# Altium footprint library GMSK Prototyping Board.PcbLib: 13 footprints
Each footprint in its own frame and in the unit in brackets; x right, y up, seen from the top. Pads: shape width x height; smd on the part's side, far side on the other; paste and mask are expansions set on the pad; w line width, h text height; cw(c..) or ccw(c..) is an arc to the next point about the centre after c.
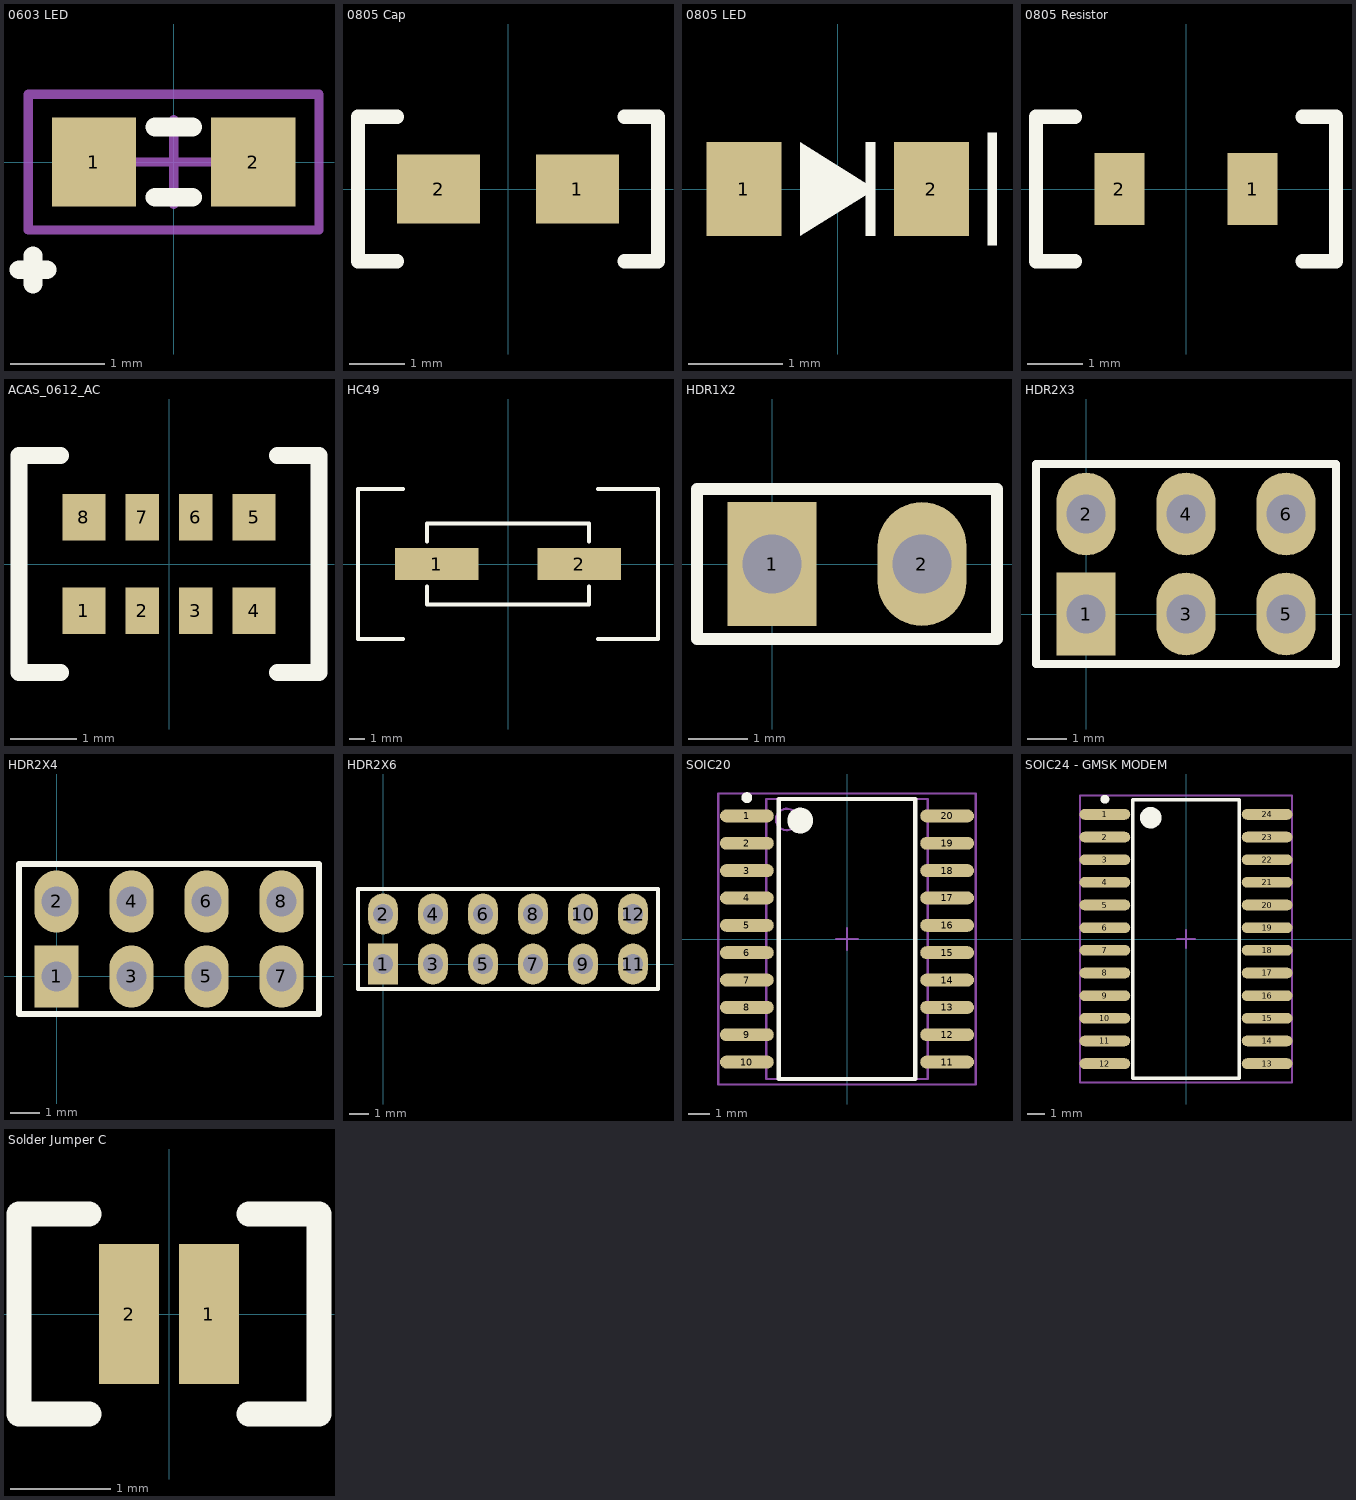
[diagram p0: the footprints below, top view; thin cyan lines are the x and y axes]

## 0603 LED [mm]
pads (2):
  rect 0.9x0.95 smd: 1(-0.85,0) 2(0.85,0)
Top Overlay:
  lines w0.2: -1.65,-1.15 -1.35,-1.15 ; -1.5,-1.3 -1.5,-1 ; -0.2,-0.375 0.2,-0.375 ; -0.2,0.375 0.2,0.375
Mechanical 15:
  lines w0.1: -0.45,0 0.45,0 ; 0,-0.45 0,0.45 ; -1.55,-0.725 -1.55,0.725 1.55,0.725 1.55,-0.725 -1.55,-0.725
3D body: height 0.6, standoff 0.2, extent -0.8,-0.4 0.8,0.4
3D body: height 0.2, standoff 0, extent -0.8,-0.4 0.8,0.4

## 0805 Cap [mm]
pads (2):
  rect 1.5x1.25 smd: 1(1.25,0) 2(-1.25,0)
Top Overlay:
  lines w0.254: -2,-1.3 -2.7,-1.3 -2.7,1.3 -2,1.3 ; 2.1,-1.3 2.7,-1.3 2.7,1.3 2.1,1.3
3D body: height 1, standoff 0, extent -1.05,-0.625 1.05,0.625
3D body: height 1, standoff 0, extent 1.05,-0.625 1.55,0.625
3D body: height 1, standoff 0, extent -1.55,-0.625 -1.05,0.625

## 0805 LED [mm] "0805 Light Emitting Diode"
pads (2):
  rect 0.8x1 smd: 1(-1,0) 2(1,0)
Top Overlay:
  region: 1.6,0.6 1.6,-0.6 1.7,-0.6 1.7,0.6
  region: -0.4,-0.5 0.4,0 -0.4,0.5
  region: 0.3,-0.5 0.4,-0.5 0.4,0.5 0.3,0.5

## 0805 Resistor [mm]
pads (2):
  rect 0.9x1.3 smd: 1(1.2,0) 2(-1.2,0)
Top Overlay:
  lines w0.254: -2,-1.3 -2.7,-1.3 -2.7,1.3 -2,1.3 ; 2.1,-1.3 2.7,-1.3 2.7,1.3 2.1,1.3
3D body: height 0.5, standoff 0, extent -1.05,-0.625 1.05,0.625
3D body: height 0.5, standoff 0, extent 1.05,-0.625 1.4,0.625
3D body: height 0.5, standoff 0, extent -1.4,-0.625 -1.05,0.625

## ACAS_0612_AC [mm]
pads (8):
  rect 0.65x0.7 smd: 1(-1.275,-0.7) 4(1.275,-0.7) 5(1.275,0.7) 8(-1.275,0.7)
  rect 0.5x0.7 smd: 2(-0.4,-0.7) 3(0.4,-0.7) 6(0.4,0.7) 7(-0.4,0.7)
Top Overlay:
  lines w0.254: -1.625,-1.625 -2.25,-1.625 -2.25,1.625 -1.625,1.625 ; 1.625,-1.625 2.25,-1.625 2.25,1.625 1.625,1.625
3D body: height 0.45, standoff 0, extent -1.6,-0.35 1.6,0.35
3D body: height 0.45, standoff 0, extent -1.6,0.35 -1,0.75
3D body: height 0.45, standoff 0, extent -1.6,-0.75 -1,-0.35
3D body: height 0.45, standoff 0, extent 1,-0.75 1.6,-0.35
3D body: height 0.45, standoff 0, extent 1,0.35 1.6,0.75
3D body: height 0.45, standoff 0, extent -0.6,0.35 -0.2,0.75
3D body: height 0.45, standoff 0, extent 0.2,0.35 0.6,0.75
3D body: height 0.45, standoff 0, extent 0.2,-0.75 0.6,-0.35
3D body: height 0.45, standoff 0, extent -0.6,-0.75 -0.2,-0.35

## HC49 [mm]
pads (2):
  rect 5.6x2.1 smd: 1(-4.75,0) 2(4.75,0)
Top Overlay:
  lines w0.254: -7,-5 -10,-5 -10,5 -7,5 ; -5.4,-1.5 -5.4,-2.7 5.4,-2.7 5.4,-1.5 ; -5.4,1.5 -5.4,2.7 5.4,2.7 5.4,1.5 ; 6,-5 10,-5 10,5 6,5
3D body: height 1, standoff 0.1, extent -5.4,-2.7 5.4,2.7
3D body: height 4.2, standoff 0, extent 1.016,-1.996 5,1.996
3D body: height 4.2, standoff 0, extent -4.984,-1.996 -1,1.996
3D body: height 4.2, standoff 0, extent -2.992,-1.996 3.008,1.996

## HDR1X2 [mm]
pads (2):
  rect 1.5x2.1 hole 1: 1(0,0)
  oval 1.5x2.1 hole 1: 2(2.54,0)
Top Overlay:
  lines w0.2: -1.27,-1.27 3.81,-1.27 3.81,1.27 -1.27,1.27 -1.27,-1.27
3D body: height 2.54, standoff 0, extent -1.17,-1.17 3.71,1.17
3D body: height 7.01, standoff 1.01, extent 2.044,-0.499 3.04,0.499
3D body: height 7.01, standoff 1.01, extent -0.496,-0.499 0.5,0.499

## HDR2X3 [mm]
pads (6):
  rect 1.5x2.1 hole 1: 1(0,0)
  oval 1.5x2.1 hole 1: 2(0,2.54) 3(2.54,0) 4(2.54,2.54) 5(5.08,0) 6(5.08,2.54)
Top Overlay:
  lines w0.2: 1.482,-1.27 6.35,-1.27 ; 6.35,-1.27 6.35,3.81 -1.27,3.81 -1.27,-1.27 6.35,-1.27
3D body: height 7.01, standoff 1.01, extent -0.499,-0.5 0.499,0.496
3D body: height 7.01, standoff 1.01, extent -0.499,2.04 0.499,3.036
3D body: height 7.01, standoff 1.01, extent 2.041,2.04 3.039,3.036
3D body: height 7.01, standoff 1.01, extent 2.041,-0.5 3.039,0.496
3D body: height 7.01, standoff 1.01, extent 4.581,-0.5 5.579,0.496
3D body: height 7.01, standoff 1.01, extent 4.581,2.04 5.579,3.036
3D body: height 2.54, standoff 0, extent -1.17,-1.17 6.25,3.71

## HDR2X4 [mm]
pads (8):
  rect 1.5x2.1 hole 1: 1(0,0)
  oval 1.5x2.1 hole 1: 2(0,2.54) 3(2.54,0) 4(2.54,2.54) 5(5.08,0) 6(5.08,2.54) 7(7.62,0) 8(7.62,2.54)
Top Overlay:
  lines w0.2: -1.27,-1.27 -1.27,3.81 8.89,3.81 8.89,-1.27 -1.27,-1.27
3D body: height 2.54, standoff 0, extent -1.17,-1.17 8.79,3.71
3D body: height 7.01, standoff 1.01, extent -0.496,2.041 0.5,3.039
3D body: height 7.01, standoff 1.01, extent 2.044,2.041 3.04,3.039
3D body: height 7.01, standoff 1.01, extent 4.584,2.041 5.58,3.039
3D body: height 7.01, standoff 1.01, extent 7.124,2.041 8.12,3.039
3D body: height 7.01, standoff 1.01, extent 7.124,-0.499 8.12,0.499
3D body: height 7.01, standoff 1.01, extent 4.584,-0.499 5.58,0.499
3D body: height 7.01, standoff 1.01, extent 2.044,-0.499 3.04,0.499
3D body: height 7.01, standoff 1.01, extent -0.496,-0.499 0.5,0.499

## HDR2X6 [mm]
pads (12):
  rect 1.5x2.1 hole 1: 1(0,0)
  oval 1.5x2.1 hole 1: 2(0,2.54) 3(2.54,0) 4(2.54,2.54) 5(5.08,0) 6(5.08,2.54) 7(7.62,0) 8(7.62,2.54) 9(10.16,0) 10(10.16,2.54) 11(12.7,0) 12(12.7,2.54)
Top Overlay:
  lines w0.2: -1.27,-1.27 13.97,-1.27 13.97,3.81 -1.27,3.81 -1.27,-1.27
3D body: height 7.01, standoff 1.01, extent -0.496,-0.499 0.5,0.499
3D body: height 7.01, standoff 1.01, extent 2.044,-0.499 3.04,0.499
3D body: height 7.01, standoff 1.01, extent 4.584,-0.499 5.58,0.499
3D body: height 7.01, standoff 1.01, extent 7.124,-0.499 8.12,0.499
3D body: height 7.01, standoff 1.01, extent 9.664,-0.499 10.66,0.499
3D body: height 7.01, standoff 1.01, extent 12.204,-0.499 13.2,0.499
3D body: height 7.01, standoff 1.01, extent 12.204,2.041 13.2,3.039
3D body: height 7.01, standoff 1.01, extent 9.664,2.041 10.66,3.039
3D body: height 7.01, standoff 1.01, extent 7.124,2.041 8.12,3.039
3D body: height 7.01, standoff 1.01, extent 4.584,2.041 5.58,3.039
3D body: height 7.01, standoff 1.01, extent 2.044,2.041 3.04,3.039
3D body: height 7.01, standoff 1.01, extent -0.496,2.041 0.5,3.039
3D body: height 2.54, standoff 0, extent -1.18,-1.175 13.87,3.725

## SOIC20 [mm]
pads (20):
  oval 2.5x0.6 smd: 1(-4.65,5.715) 2(-4.65,4.445) 3(-4.65,3.175) 4(-4.65,1.905) 5(-4.65,0.635) 6(-4.65,-0.635) 7(-4.65,-1.905) 8(-4.65,-3.175) 9(-4.65,-4.445) 10(-4.65,-5.715) 11(4.65,-5.715) 12(4.65,-4.445) 13(4.65,-3.175) 14(4.65,-1.905) 15(4.65,-0.635) 16(4.65,0.635) 17(4.65,1.905) 18(4.65,3.175) 19(4.65,4.445) 20(4.65,5.715)
Top Overlay:
  circle w0.6: c-2.175,5.5 r0.3
  circle w0.25: c-4.65,6.565 r0.125
  lines w0.2: -3.175,-6.5 3.175,-6.5 3.175,6.5 -3.175,6.5 -3.175,-6.5
Mechanical 13:
  circle w0.1: c-2.8,5.55 r0.5
  lines w0.1: -3.75,-6.5 3.75,-6.5 3.75,6.5 -3.75,6.5 -3.75,-6.5
Mechanical 15:
  lines w0.1: -0.5,0 0.5,0 ; 0,-0.5 0,0.5 ; -5.975,-6.75 5.975,-6.75 5.975,6.75 -5.975,6.75 -5.975,-6.75
3D body: height 0.33, standoff 0, extent 4.064,5.359 5.334,6.071
3D body: height 0.33, standoff 0, extent -5.334,5.359 -4.064,6.071
3D body: height 1.27, standoff 0, extent -4.064,5.359 -3.75,6.071
3D body: height 1.27, standoff 0, extent 3.75,5.359 4.064,6.071
3D body: height 0.33, standoff 0, extent 4.039,-4.801 5.309,-4.089
3D body: height 0.33, standoff 0, extent -5.359,-4.801 -4.089,-4.089
3D body: height 1.27, standoff 0, extent -4.089,-4.801 -3.775,-4.089
3D body: height 1.27, standoff 0, extent 3.725,-4.801 4.039,-4.089
3D body: height 0.33, standoff 0, extent 4.039,-6.071 5.309,-5.359
3D body: height 0.33, standoff 0, extent -5.359,-6.071 -4.089,-5.359
3D body: height 1.27, standoff 0, extent -4.089,-6.071 -3.775,-5.359
3D body: height 1.27, standoff 0, extent 3.725,-6.071 4.039,-5.359
3D body: height 1.27, standoff 0, extent 3.75,-3.531 4.064,-2.819
3D body: height 1.27, standoff 0, extent -4.064,-3.531 -3.75,-2.819
3D body: height 0.33, standoff 0, extent -5.334,-3.531 -4.064,-2.819
3D body: height 0.33, standoff 0, extent 4.064,-3.531 5.334,-2.819
3D body: height 1.27, standoff 0, extent 3.75,-2.261 4.064,-1.549
3D body: height 1.27, standoff 0, extent -4.064,-2.261 -3.75,-1.549
3D body: height 0.33, standoff 0, extent -5.334,-2.261 -4.064,-1.549
3D body: height 0.33, standoff 0, extent 4.064,-2.261 5.334,-1.549
3D body: height 1.27, standoff 0, extent 3.75,-0.991 4.064,-0.279
3D body: height 1.27, standoff 0, extent -4.064,-0.991 -3.75,-0.279
3D body: height 0.33, standoff 0, extent -5.334,-0.991 -4.064,-0.279
3D body: height 0.33, standoff 0, extent 4.064,-0.991 5.334,-0.279
3D body: height 1.27, standoff 0, extent 3.75,0.279 4.064,0.991
3D body: height 1.27, standoff 0, extent -4.064,0.279 -3.75,0.991
3D body: height 0.33, standoff 0, extent -5.334,0.279 -4.064,0.991
3D body: height 0.33, standoff 0, extent 4.064,0.279 5.334,0.991
3D body: height 1.27, standoff 0, extent 3.75,1.549 4.064,2.261
3D body: height 1.27, standoff 0, extent -4.064,1.549 -3.75,2.261
3D body: height 0.33, standoff 0, extent -5.334,1.549 -4.064,2.261
3D body: height 0.33, standoff 0, extent 4.064,1.549 5.334,2.261
3D body: height 1.27, standoff 0, extent 3.725,2.819 4.039,3.531
3D body: height 1.27, standoff 0, extent -4.089,2.819 -3.775,3.531
3D body: height 0.33, standoff 0, extent -5.359,2.819 -4.089,3.531
3D body: height 0.33, standoff 0, extent 4.039,2.819 5.309,3.531
3D body: height 1.27, standoff 0, extent 3.75,4.089 4.064,4.801
3D body: height 1.27, standoff 0, extent -4.064,4.089 -3.75,4.801
3D body: height 0.33, standoff 0, extent -5.334,4.089 -4.064,4.801
3D body: height 0.33, standoff 0, extent 4.064,4.089 5.334,4.801
3D body: height 2.65, standoff 0.1, extent -3.75,-6.5 3.75,6.5

## SOIC24 - GMSK MODEM [mm]
pads (24):
  oval 2.85x0.6 smd: 1(-4.55,6.985) 2(-4.55,5.715) 3(-4.55,4.445) 4(-4.55,3.175) 5(-4.55,1.905) 6(-4.55,0.635) 7(-4.55,-0.635) 8(-4.55,-1.905) 9(-4.55,-3.175) 10(-4.55,-4.445) 11(-4.55,-5.715) 12(-4.55,-6.985) 13(4.55,-6.985) 14(4.55,-5.715) 15(4.55,-4.445) 16(4.55,-3.175) 17(4.55,-1.905) 18(4.55,-0.635) 19(4.55,0.635) 20(4.55,1.905) 21(4.55,3.175) 22(4.55,4.445) 23(4.55,5.715) 24(4.55,6.985)
Top Overlay:
  circle w0.6: c-1.975,6.8 r0.3
  circle w0.25: c-4.55,7.835 r0.125
  lines w0.2: -2.975,-7.8 2.975,-7.8 2.975,7.8 -2.975,7.8 -2.975,-7.8
Mechanical 13:
  circle w0.1: c-1.973,6.782 r0.5
Mechanical 15:
  lines w0.1: -0.5,0 0.5,0 ; 0,-0.5 0,0.5 ; -5.95,-8.05 5.95,-8.05 5.95,8.05 -5.95,8.05 -5.95,-8.05
3D body: height 2.67, standoff 0, extent -3.797,-7.785 3.797,7.785
3D body: height 0.33, standoff 0, extent 4.111,6.629 5.381,7.34
3D body: height 0.33, standoff 0, extent -5.381,6.629 -4.111,7.341
3D body: height 1.27, standoff 0, extent -4.111,6.629 -3.797,7.341
3D body: height 1.27, standoff 0, extent 3.797,6.629 4.111,7.34
3D body: height 1.27, standoff 0, extent 3.797,5.359 4.111,6.071
3D body: height 1.27, standoff 0, extent -4.111,5.359 -3.797,6.071
3D body: height 0.33, standoff 0, extent -5.381,5.359 -4.111,6.071
3D body: height 0.33, standoff 0, extent 4.111,5.359 5.381,6.071
3D body: height 0.33, standoff 0, extent 4.111,2.819 5.381,3.531
3D body: height 0.33, standoff 0, extent -5.381,2.819 -4.111,3.531
3D body: height 1.27, standoff 0, extent -4.111,2.819 -3.797,3.531
3D body: height 1.27, standoff 0, extent 3.797,2.819 4.111,3.531
3D body: height 1.27, standoff 0, extent 3.797,4.089 4.111,4.8
3D body: height 1.27, standoff 0, extent -4.111,4.089 -3.797,4.801
3D body: height 0.33, standoff 0, extent -5.381,4.089 -4.111,4.801
3D body: height 0.33, standoff 0, extent 4.111,4.089 5.381,4.8
3D body: height 0.33, standoff 0, extent 4.111,-0.991 5.381,-0.28
3D body: height 0.33, standoff 0, extent -5.381,-0.991 -4.111,-0.279
3D body: height 1.27, standoff 0, extent -4.111,-0.991 -3.797,-0.279
3D body: height 1.27, standoff 0, extent 3.797,-0.991 4.111,-0.28
3D body: height 1.27, standoff 0, extent 3.797,-2.261 4.111,-1.549
3D body: height 1.27, standoff 0, extent -4.111,-2.261 -3.797,-1.549
3D body: height 0.33, standoff 0, extent -5.381,-2.261 -4.111,-1.549
3D body: height 0.33, standoff 0, extent 4.111,-2.261 5.381,-1.549
3D body: height 0.33, standoff 0, extent 4.111,0.279 5.381,0.991
3D body: height 0.33, standoff 0, extent -5.381,0.279 -4.111,0.991
3D body: height 1.27, standoff 0, extent -4.111,0.279 -3.797,0.991
3D body: height 1.27, standoff 0, extent 3.797,0.279 4.111,0.991
3D body: height 1.27, standoff 0, extent 3.797,1.549 4.111,2.26
3D body: height 1.27, standoff 0, extent -4.111,1.549 -3.797,2.261
3D body: height 0.33, standoff 0, extent -5.381,1.549 -4.111,2.261
3D body: height 0.33, standoff 0, extent 4.111,1.549 5.381,2.26
3D body: height 0.33, standoff 0, extent 4.111,-6.071 5.381,-5.36
3D body: height 0.33, standoff 0, extent -5.381,-6.071 -4.111,-5.359
3D body: height 1.27, standoff 0, extent -4.111,-6.071 -3.797,-5.359
3D body: height 1.27, standoff 0, extent 3.797,-6.071 4.111,-5.36
3D body: height 1.27, standoff 0, extent 3.797,-7.341 4.111,-6.629
3D body: height 1.27, standoff 0, extent -4.111,-7.341 -3.797,-6.629
3D body: height 0.33, standoff 0, extent -5.381,-7.341 -4.111,-6.629
3D body: height 0.33, standoff 0, extent 4.111,-7.341 5.381,-6.629
3D body: height 0.33, standoff 0, extent 4.111,-4.801 5.381,-4.089
3D body: height 0.33, standoff 0, extent -5.381,-4.801 -4.111,-4.089
3D body: height 1.27, standoff 0, extent -4.111,-4.801 -3.797,-4.089
3D body: height 1.27, standoff 0, extent 3.797,-4.801 4.111,-4.089
3D body: height 1.27, standoff 0, extent 3.797,-3.531 4.111,-2.82
3D body: height 1.27, standoff 0, extent -4.111,-3.531 -3.797,-2.819
3D body: height 0.33, standoff 0, extent -5.381,-3.531 -4.111,-2.819
3D body: height 0.33, standoff 0, extent 4.111,-3.531 5.381,-2.82

## Solder Jumper C [mm]
pads (2):
  rect 0.6x1.4 smd: 1(0.4,0) 2(-0.4,0)
Top Overlay:
  lines w0.254: -0.8,-1 -1.5,-1 -1.5,1 -0.8,1 ; 0.8,-1 1.5,-1 1.5,1 0.8,1
Top Solder:
  region: -0.8,0.8 -0.8,-0.8 0.8,-0.8 0.8,0.8